# Altium footprint library aistlab.PcbLib: 36 footprints (part 1 of 3)
Each footprint in its own frame and in the unit in brackets; x right, y up, seen from the top. Pads: shape width x height; smd on the part's side, far side on the other; paste and mask are expansions set on the pad; w line width, h text height; cw(c..) or ccw(c..) is an arc to the next point about the centre after c.
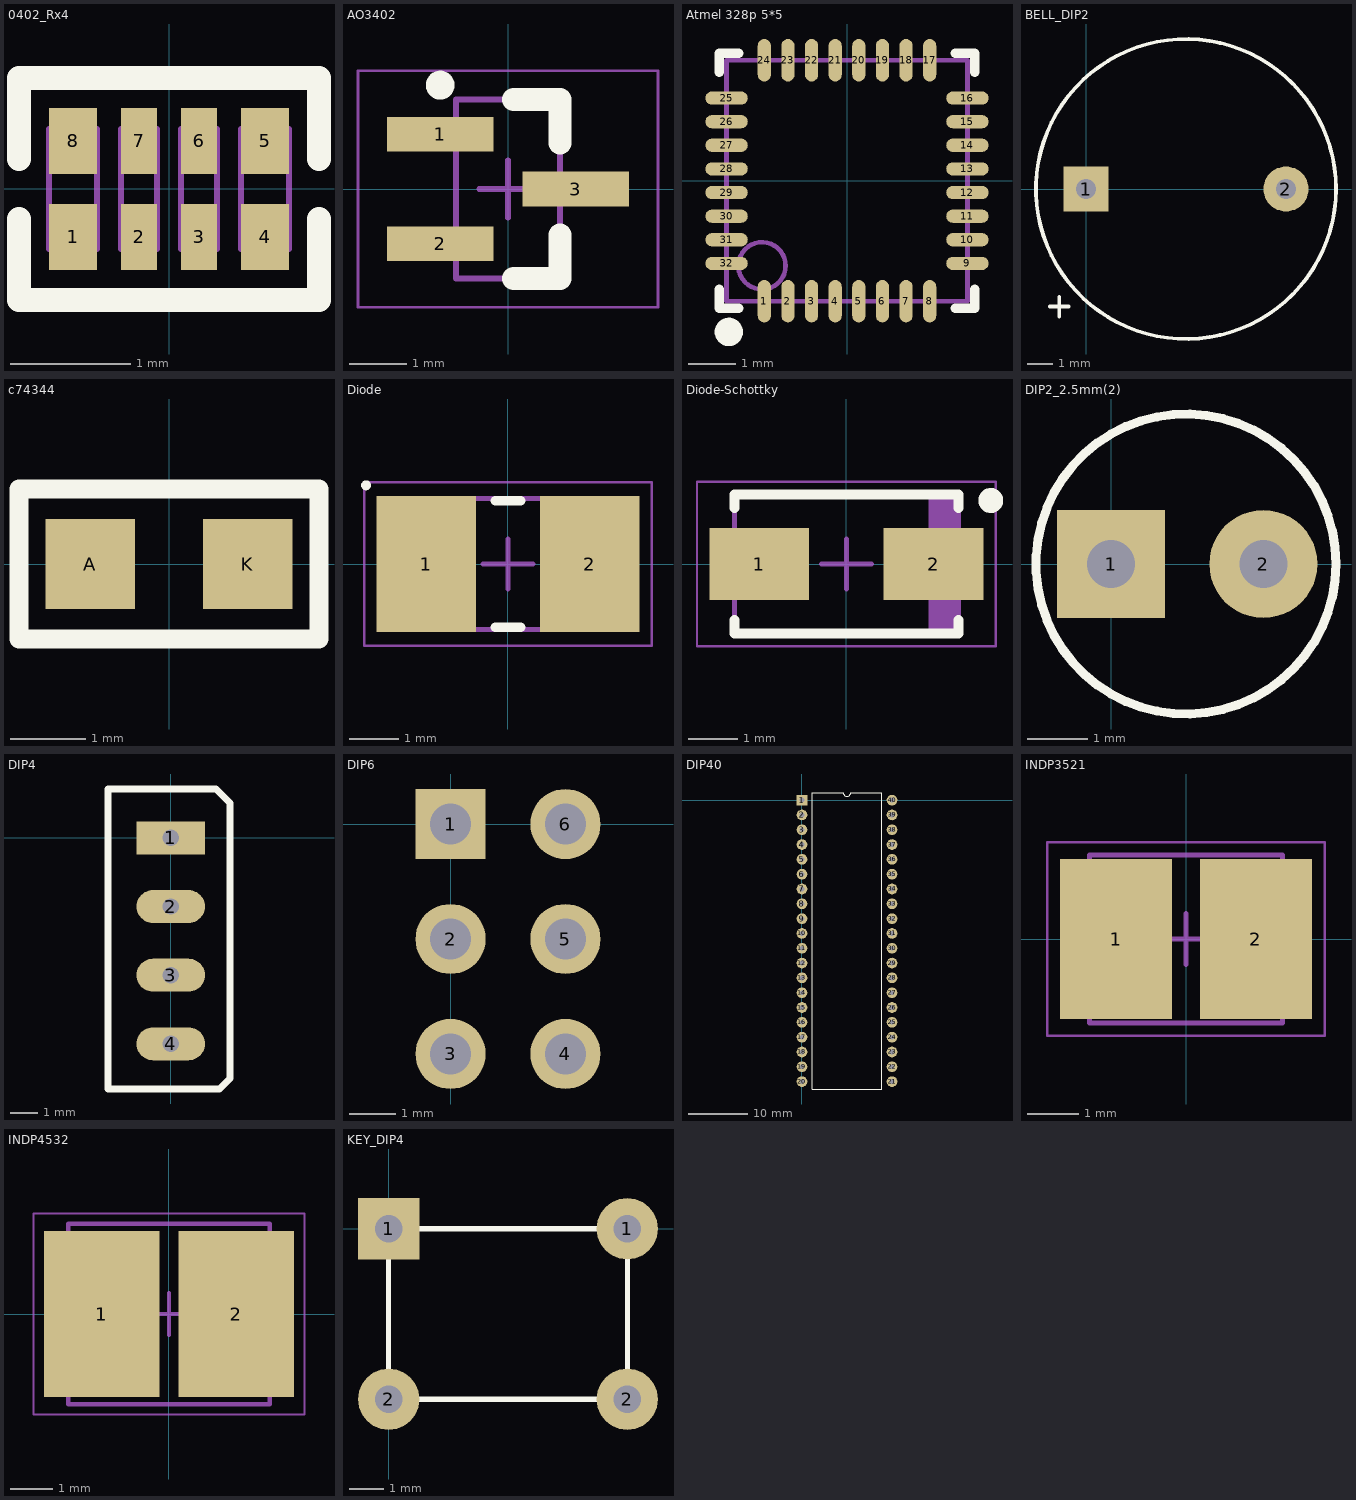
[diagram p0: the footprints below, top view; thin cyan lines are the x and y axes]

## 0402 [mm]

## 0402_Rx4 [mm]
pads (8):
  rect 0.4x0.55 smd mask+0.051: 1(-0.8,-0.4) 4(0.8,-0.4) 5(0.8,0.4) 8(-0.8,0.4)
  rect 0.3x0.55 smd mask+0.051: 2(-0.25,-0.4) 3(0.25,-0.4) 6(0.25,0.4) 7(-0.25,0.4)
Top Overlay:
  lines w0.2: -1.25,-0.25 -1.25,-0.925 1.25,-0.925 1.25,-0.25 ; -1.25,0.25 -1.25,0.925 1.25,0.925 1.25,0.25
Mechanical 13:
  lines w0.05: -1,-0.5 -0.6,-0.5 ; -1,-0.5 -1,0.5 -0.6,0.5 -0.6,-0.5 ; -1,-0.5 -0.6,-0.5 ; -0.4,-0.5 -0.1,-0.5 -0.1,0.5 -0.4,0.5 -0.4,-0.5 ; 0.1,-0.5 0.4,-0.5 0.4,0.5 0.1,0.5 0.1,-0.5 ; 0.6,-0.5 1,-0.5 1,0.5 0.6,0.5 0.6,-0.5
3D body "User Library-YC124-1.step": height 0.45, standoff 0, extent -1,-0.5 1,0.5

## 0805 [mm]

## AO3402 [mm] "SOT23, 3-Leads, Body 2.95x2.80mm, Pitch 0.95mm, IPC Low Density"
height 1.25
pads (3):
  rect 1.85x0.6 smd: 1(-1.175,0.95) 2(-1.175,-0.95) 3(1.175,0)
Top Overlay:
  circle w0.25: c-1.175,1.8 r0.125
  lines w0.4: 0.1,-1.55 0.9,-1.55 0.9,-0.8 ; 0.1,1.55 0.9,1.55 0.9,0.8
Mechanical 13:
  lines w0.1: -0.9,-1.55 -0.9,1.55 0.9,1.55 0.9,-1.55 -0.9,-1.55
Mechanical 15:
  lines w0.05: -2.6,-2.05 -2.6,2.05 2.6,2.05 2.6,-2.05 -2.6,-2.05
  lines w0.1: -0.5,0 0.5,0 ; 0,-0.5 0,0.5
3D body: height 1.25, standoff 0, extent -0.9,-1.55 0.9,1.55

## Atmel 328p 5*5 [mm]
pads (32):
  oval 0.28x0.9 smd mask+0.051: 1(-1.75,-2.55) 2(-1.25,-2.55) 3(-0.75,-2.55) 4(-0.25,-2.55) 5(0.25,-2.55) 6(0.75,-2.55) 7(1.25,-2.55) 8(1.75,-2.55) 17(1.75,2.55) 18(1.25,2.55) 19(0.75,2.55) 20(0.25,2.55) 21(-0.25,2.55) 22(-0.75,2.55) 23(-1.25,2.55) 24(-1.75,2.55)
  oval 0.9x0.28 smd mask+0.051: 9(2.55,-1.75) 10(2.55,-1.25) 11(2.55,-0.75) 12(2.55,-0.25) 13(2.55,0.25) 14(2.55,0.75) 15(2.55,1.25) 16(2.55,1.75) 25(-2.55,1.75) 26(-2.55,1.25) 27(-2.55,0.75) 28(-2.55,0.25) 29(-2.55,-0.25) 30(-2.55,-0.75) 31(-2.55,-1.25) 32(-2.55,-1.75)
Top Overlay:
  circle w0.3: c-2.5,-3.2 r0.15
  lines w0.2: -2.7,-2.295 -2.7,-2.7 -2.295,-2.7 ; -2.7,2.295 -2.7,2.7 -2.295,2.7 ; 2.295,-2.7 2.7,-2.7 2.7,-2.295 ; 2.295,2.7 2.7,2.7 2.7,2.295
Top Paste:
  rectangle: -0.25,-0.25 0.25,0.25
  rectangle: 0.55,-0.25 1.05,0.25
  rectangle: -0.25,-1.05 0.25,-0.55
  rectangle: 0.55,-1.05 1.05,-0.55
  rectangle: -1.05,-1.05 -0.55,-0.55
  rectangle: -1.05,-0.25 -0.55,0.25
  rectangle: -1.05,0.55 -0.55,1.05
  rectangle: -0.25,0.55 0.25,1.05
  rectangle: 0.55,0.55 1.05,1.05
Mechanical 13:
  circle w0.1: c-1.8,-1.8 r0.5
  lines w0.1: -2.55,-2.55 2.55,-2.55 2.55,2.55 -2.55,2.55 -2.55,-2.55

## BELL_DIP2 [mm]
pads (2):
  rect 1.8x1.8 hole 0.8: 1(0,0)
  round 1.8 hole 0.8: 2(8,0)
Top Overlay:
  circle w0.15: c4,0 r6
  lines w0.15: -1.45,-4.7 -0.7,-4.7 ; -1.075,-5.1 -1.075,-4.325

## c74344 [mm]
pads (2):
  rect 1.2x1.2 smd: A(-1.05,0) K(1.05,0)
Top Overlay:
  lines w0.254: -2,-1 -2,1 2,1 2,-1 -2,-1

## Diode [mm] "Chip Capacitor, 2-Leads, Body 4.30x2.63mm, IPC Medium Density"
height 0.6
pads (2):
  rect 2x2.75 smd: 1(-1.65,0) 2(1.65,0)
Top Overlay:
  circle w0.1: c-2.862,1.587 r0.05
  lines w0.2: -0.25,-1.275 0.25,-1.275 ; -0.25,1.275 0.25,1.275
Mechanical 13:
  lines w0.1: -2.225,-1.325 -2.225,1.325 2.225,1.325 2.225,-1.325 -2.225,-1.325
Mechanical 15:
  lines w0.05: -2.9,-1.65 -2.9,1.65 2.9,1.65 2.9,-1.65 -2.9,-1.65
  lines w0.1: -0.5,0 0.5,0 ; 0,-0.5 0,0.5
3D body: height 0.6, standoff 0, extent -0.825,-1.325 0.825,1.325
3D body: height 0.6, standoff 0, extent -2.225,-1.325 -0.825,1.325
3D body: height 0.6, standoff 0, extent 0.825,-1.325 2.225,1.325

## Diode-Schottky [mm] "Molded Diode, 2-Leads, Body 4.25x2.67mm, IPC Medium Density"
height 2
pads (2):
  rect 2x1.45 smd: 1(-1.75,0) 2(1.75,0)
Top Overlay:
  circle w0.25: c2.9,1.275 r0.125
  lines w0.2: -2.25,-1.125 -2.25,-1.4 2.25,-1.4 2.25,-1.125 ; -2.25,1.125 -2.25,1.4 2.25,1.4 2.25,1.125
Mechanical 13:
  rectangle: 1.645,-1.4 2.25,1.4
  lines w0.1: -2.25,-1.4 2.25,-1.4 2.25,1.4 -2.25,1.4 -2.25,-1.4
Mechanical 15:
  lines w0.05: -3,-1.65 3,-1.65 3,1.65 -3,1.65 -3,-1.65
  lines w0.1: -0.5,0 0.5,0 ; 0,-0.5 0,0.5
3D body "DIOM4227X20N.step": height 2, standoff 0, extent -2.47,-1.4 2.47,1.4

## DIP2_2.5mm(2) [mm]
pads (2):
  rect 1.8x1.8 hole 0.8: 1(0,0)
  round 1.8 hole 0.8: 2(2.54,0)
Top Overlay:
  circle w0.15: c1.25,0 r2.5

## DIP4 [mm]
pads (4):
  rect 2.5x1.2 hole 0.6: 1(0,0)
  oval 2.5x1.2 hole 0.6: 2(0,-2.5) 3(0,-5) 4(0,-7.5)
Top Overlay:
  lines w0.254: -2.286,-9.144 -2.286,1.778 1.651,1.778 2.159,1.27 2.159,-8.763 1.778,-9.144 -2.286,-9.144

## DIP6 [mil]
pads (6):
  rect 60x60 hole 35: 1(0,0)
  round 60 hole 35: 2(0,-98.43) 3(0,-196.85) 4(98.43,-196.85) 5(98.43,-98.43) 6(98.43,0)

## DIP40 [mm]
pads (40):
  rect 1.8x1.8 hole 0.8: 1(0,0)
  round 1.8 hole 0.8: 2(0,-2.5) 3(0,-5) 4(0,-7.5) 5(0,-10) 6(0,-12.5) 7(0,-15) 8(0,-17.5) 9(0,-20) 10(0,-22.5) 11(0,-25) 12(0,-27.5) 13(0,-30) 14(0,-32.5) 15(0,-35) 16(0,-37.5) 17(0,-40) 18(0,-42.5) 19(0,-45) 20(0,-47.5) 21(15.2,-47.5) 22(15.2,-45) 23(15.2,-42.5) 24(15.2,-40) 25(15.2,-37.5) 26(15.2,-35) 27(15.2,-32.5) 28(15.2,-30) 29(15.2,-27.5) 30(15.2,-25) 31(15.2,-22.5) 32(15.2,-20) 33(15.2,-17.5) 34(15.2,-15) 35(15.2,-12.5) 36(15.2,-10) 37(15.2,-7.5) 38(15.2,-5) 39(15.2,-2.5) 40(15.2,0)
Top Overlay:
  lines w0.2: 1.735,-48.75 1.735,1.25 6.975,1.25 ccw(c7.6,1.25) 8.225,1.25 13.465,1.25 13.465,-48.75 1.735,-48.75

## INDP3521 [mm] "Precision Wire Wound Inductor, 2-Leads, Body 3.50x3.00mm, IPC Medium Density"
height 2.1
pads (2):
  rect 2.2x3.15 smd: 1(-1.375,0) 2(1.375,0)
Mechanical 13:
  lines w0.1: -1.9,-1.65 1.9,-1.65 1.9,1.65 -1.9,1.65 -1.9,-1.65
Mechanical 15:
  lines w0.05: -2.725,-1.9 2.725,-1.9 2.725,1.9 -2.725,1.9 -2.725,-1.9
  lines w0.1: -0.5,0 0.5,0 ; 0,-0.5 0,0.5
3D body "INDP3530X21N.step": height 2.2, standoff 0, extent -1.85,-1.5 1.85,1.5

## INDP4532 [mm] "Precision Wire Wound Inductor, 2-Leads, Body 4.50x4.00mm, IPC Medium Density 电感4532封装"
height 3
pads (2):
  rect 2.75x3.95 smd: 1(-1.6,0) 2(1.6,0)
Mechanical 13:
  lines w0.1: -2.4,-2.15 2.4,-2.15 2.4,2.15 -2.4,2.15 -2.4,-2.15
Mechanical 15:
  lines w0.05: -3.225,-2.4 3.225,-2.4 3.225,2.4 -3.225,2.4 -3.225,-2.4
  lines w0.1: -0.5,0 0.5,0 ; 0,-0.5 0,0.5
3D body "INDP4540X30N.step": height 3.1, standoff 0, extent -2.35,-2 2.35,2

## KEY_DIP4 [mm]
pads (4):
  rect 1.8x1.8 hole 0.8: 1(0,0)
  round 1.8 hole 0.8: 1(7,0) 2(0,-5) 2(7,-5)
Top Overlay:
  lines w0.15: 0,-5 0,0 7,0 7,-5 0,-5
3D body "User Library-TPxxxx (Switch).STEP": height 5.9, standoff -2.59, extent -0.56,-5.461 7.418,0.539